# EAGLE library part IC-TRANSLATOR-4CH-74AVC4T774 (library FlashPCB_ICs)
SN74AVC4T774 - IC TRANSLATOR BIDIR 16TSSOP Technical Specifications: Voltage Level Translator Bidirectional 1 Circuit 4 Channel 380Mbps 16-TSSOP Translator Type: Voltage Level Channels: 4 Channel Type: Bi-Directional Dual-Rail Design Power Supply (per rail): 1.1V~3.6V Resolution: 4bit Component Search: SN74AVC4T774 <https://www.flashpcb.com/components> Datasheet: SN74AVC4T774 4-Bit Dual-Supply Bus Transceiver With Configurable Voltage-Level Shifting and 3-State Outputs With Independent Direction Control Inputs datasheet (Rev. G) <https://www.ti.com/lit/ds/symlink/sn74avc4t774.pdf?HQS=dis-dk-null-digikeymode-dsf-pf-null-wwe&ts=1683706670421&ref_url=https%253A%252F%252Fwww.ti.com%252Fgeneral%252Fdocs%252Fsuppproductinfo.tsp%253FdistId%253D10%2526gotoUrl%253Dhttps%253A%252F%252Fwww.ti.com%252Flit%252Fgpn%252Fsn74avc4t774>
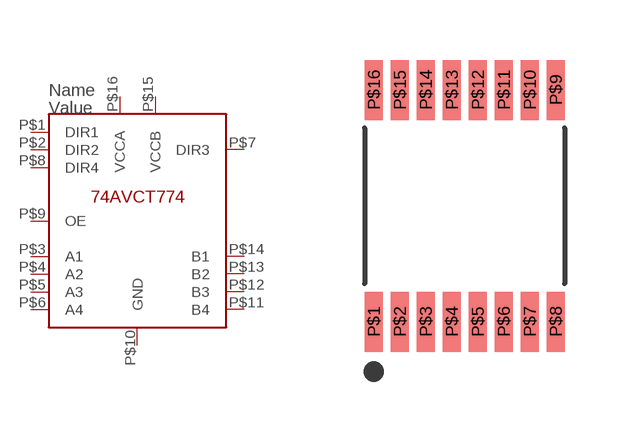
[diagram p51: symbol with the pads of 16-TSSOP; footprint 16-TSSOP]

Designator prefix U

## IC-TRANSLATOR-4CH-74AVC4T774PW  [16-TSSOP]
P$1  DIR1
P$2  DIR2
P$3  A1
P$4  A2
P$5  A3
P$6  A4
P$7  DIR3
P$8  DIR4
P$9  OE
P$10  GND
P$11  B4
P$12  B3
P$13  B2
P$14  B1
P$15  VCCB
P$16  VCCA

## Footprint 16-TSSOP (pad centres in mm)
smd 0.45 x 1.5: P$1 -2.275,-2.9; P$2 -1.625,-2.9; P$3 -0.975,-2.9; P$4 -0.325,-2.9; P$5 0.325,-2.9; P$6 0.975,-2.9; P$7 1.625,-2.9; P$8 2.275,-2.9; P$9 2.275,2.9; P$10 1.625,2.9; P$11 0.975,2.9; P$12 0.325,2.9; P$13 -0.325,2.9; P$14 -0.975,2.9; P$15 -1.625,2.9; P$16 -2.275,2.9